# Altium footprint library to-case.PcbLib: 113 footprints (part 6 of 8)
Each footprint in its own frame and in the unit in brackets; x right, y up, seen from the top. Pads: shape width x height; smd on the part's side, far side on the other; paste and mask are expansions set on the pad; w line width, h text height; cw(c..) or ccw(c..) is an arc to the next point about the centre after c.
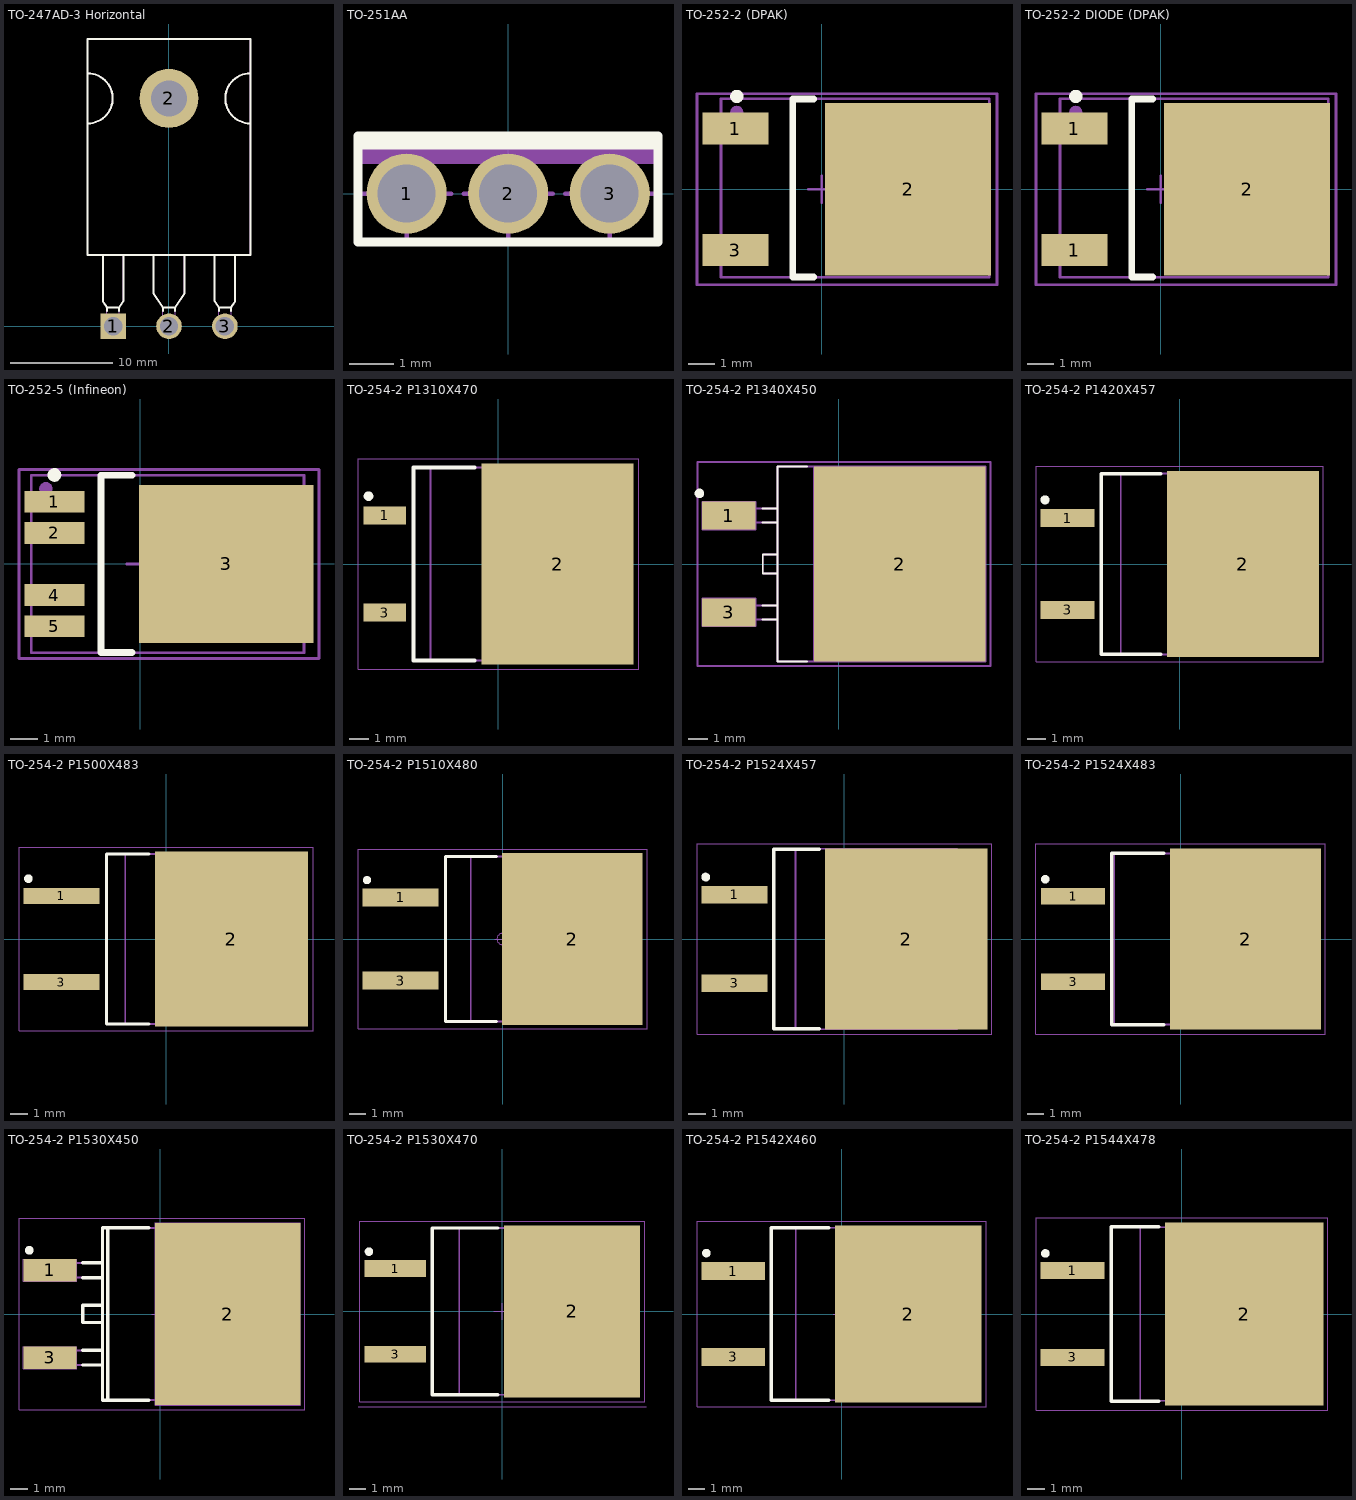
[diagram p5: the footprints below, top view; thin cyan lines are the x and y axes]

## TO-247AD-3 Horizontal [mm] "TO-247AD 3-Terminal - Horizontal Mount"
height 5.3
pads (4):
  rect 2.5x2.5 hole 1.8: 1(-5.46,0)
  round 2.5 hole 1.8: 2(0,0) 3(5.46,0)
  round 5.75 hole 3.5: 2(0,22.24)
Top Overlay:
  lines w0.2: -7.95,19.79 ccw(c-7.95,22.24) -7.95,24.69 ; -6.46,6.94 -6.46,2.44 -6.06,1.84 ; -6.06,1.5 -6.06,1.84 ; -4.86,1.5 -4.86,1.84 ; -4.46,6.94 -4.46,2.44 -4.86,1.84 ; -1.5,6.94 -1.5,3.19 -0.6,1.84 ; -0.6,1.5 -0.6,1.84 ; 0.6,1.5 0.6,1.84 ; 1.5,6.94 1.5,3.19 0.6,1.84 ; 4.46,6.94 4.46,2.44 4.86,1.84 ; 4.86,1.5 4.86,1.84 ; 6.06,1.5 6.06,1.84 ; 6.46,6.94 6.46,2.44 6.06,1.84 ; 7.95,19.79 cw(c7.95,22.24) 7.95,24.69 ; -6.06,1.84 -4.86,1.84 ; -0.6,1.84 0.6,1.84 ; 4.86,1.84 6.06,1.84 ; -7.95,6.94 7.95,6.94 7.95,28.04 -7.95,28.04 -7.95,6.94
Mechanical 1:
  circle w0.1: c0,22.24 r1.75
  lines w0.1: -7.95,19.79 ccw(c-7.95,22.24) -7.95,24.69 ; -6.46,6.94 -6.46,2.44 -6.06,1.84 ; -4.46,6.94 -4.46,2.44 -4.86,1.84 ; -1.5,6.94 -1.5,3.19 -0.6,1.84 ; 1.5,6.94 1.5,3.19 0.6,1.84 ; 4.46,6.94 4.46,2.44 4.86,1.84 ; 6.46,6.94 6.46,2.44 6.06,1.84 ; 7.95,19.79 cw(c7.95,22.24) 7.95,24.69 ; -6.06,1.84 -4.86,1.84 ; -6.06,1.84 -6.06,-0.5 -4.86,-0.5 -4.86,1.84 ; -0.6,1.84 0.6,1.84 ; -0.6,1.84 -0.6,-0.5 0.6,-0.5 0.6,1.84 ; 4.86,1.84 6.06,1.84 ; 4.86,1.84 4.86,-0.5 6.06,-0.5 6.06,1.84 ; -7.95,6.94 -7.95,28.04 7.95,28.04 7.95,6.94 -7.95,6.94
Mechanical 8:
  lines w0.1: -5.96,0 -5.46,0 ; -5.46,-0.5 -5.46,0 ; -5.46,0.5 -5.46,0 ; -4.96,0 -5.46,0 ; -0.5,0 0,0 ; 0,-0.5 0,0 ; 0,0.5 0,0 ; 0.5,0 0,0 ; 4.96,0 5.46,0 ; 5.46,-0.5 5.46,0 ; 5.46,0.5 5.46,0 ; 5.96,0 5.46,0
Mechanical 15:
  circle w0.1: c0,22.24 r1.75
  lines w0.1: -7.95,19.79 ccw(c-7.95,22.24) -7.95,24.69 ; -6.46,6.94 -6.46,2.44 -6.06,1.84 ; -4.46,6.94 -4.46,2.44 -4.86,1.84 ; -1.5,6.94 -1.5,3.19 -0.6,1.84 ; -0.5,22.24 0,22.24 ; 0,21.74 0,22.24 ; 0,22.74 0,22.24 ; 0.5,22.24 0,22.24 ; 1.5,6.94 1.5,3.19 0.6,1.84 ; 4.46,6.94 4.46,2.44 4.86,1.84 ; 6.46,6.94 6.46,2.44 6.06,1.84 ; 7.95,19.79 cw(c7.95,22.24) 7.95,24.69 ; -6.06,1.84 -4.86,1.84 ; -6.06,1.84 -6.06,-0.5 -4.86,-0.5 -4.86,1.84 ; -0.6,1.84 0.6,1.84 ; -0.6,1.84 -0.6,-0.5 0.6,-0.5 0.6,1.84 ; 4.86,1.84 6.06,1.84 ; 4.86,1.84 4.86,-0.5 6.06,-0.5 6.06,1.84 ; -7.95,6.94 7.95,6.94 7.95,28.04 -7.95,28.04 -7.95,6.94
3D body "TO-247AD-H.stp": height 5.3, standoff -3.9, extent -7.95,-0.5 7.95,28.04

## TO-251AA [mm] "TO-251AA 3-Terminal - Vertical Mount"
height 10.5
pads (3):
  round 1.8 hole 1.3: 1(-2.28,0) 2(0,0) 3(2.28,0)
Top Overlay:
  lines w0.2: -3.365,1.09 3.365,1.09 ; -3.365,-1.09 3.365,-1.09 3.365,1.29 -3.365,1.29 -3.365,-1.09
Mechanical 1:
  lines w0.1: -3.365,0.71 3.365,0.71 ; -3.365,0.79 3.365,0.79 ; -3.365,0.89 3.365,0.89 ; -3.365,0.99 3.365,0.99 ; -3.365,1.09 3.365,1.09 ; -3.365,1.19 3.365,1.19 ; -3.365,-1.09 -3.365,1.29 3.365,1.29 3.365,-1.09 -3.365,-1.09
Mechanical 8:
  lines w0.1: -3.28,0 -2.28,0 ; -2.28,-1 -2.28,0 ; -2.28,1 -2.28,0 ; -1.28,0 -2.28,0 ; 1.28,0 2.28,0 ; 2.28,-1 2.28,0 ; 2.28,1 2.28,0 ; 3.28,0 2.28,0
Mechanical 15:
  lines w0.1: -1,0 0,0 ; 0,-1 0,0 ; 0,1 0,0 ; 1,0 0,0 ; -3.369,-1.084 3.361,-1.084 3.361,1.296 -3.369,1.296 -3.369,-1.084
3D body "TO-251AA-V.stp": height 10.49, standoff -3.2, extent -3.365,-1.09 3.365,1.29

## TO-252-2 (DPAK) [mm]
height 2.4
pads (4):
  rect 2.5x1.2 smd: 1(-3.25,2.29) 3(-3.25,-2.29)
  rect 6.25x6.5 smd: 2(3.25,0)
  round 0.5 on Mech1: ""(-3.2,2.9)
Top Overlay:
  circle w0.25: c-3.2,3.5 r0.125
  lines w0.25: -0.3,-3.3 -1.1,-3.3 -1.1,3.4 -0.3,3.4
Mechanical 1:
  lines w0.1: -3.798,-3.317 6.302,-3.317 6.302,3.417 ; -3.798,-3.317 -3.798,-3.317 ; -3.798,-3.317 -3.798,3.417 6.302,3.417 ; 6.302,3.417 6.302,3.417
Mechanical 15:
  lines w0.1: -0.5,0 0.5,0 ; 0,-0.5 0,0.5 ; -4.7,-3.6 -4.7,3.6 6.6,3.6 6.6,-3.6 -4.7,-3.6
3D body "User Library-DPAK_TO-252AA.STEP": height 2.37, standoff -0.03, extent -3.798,-3.317 6.302,3.417

## TO-252-2 DIODE (DPAK) [mm]
height 2.4
pads (4):
  rect 2.5x1.2 smd: 1(-3.25,-2.29) 1(-3.25,2.29)
  rect 6.25x6.5 smd: 2(3.25,0)
  round 0.5 on Mech1: ""(-3.2,2.9)
Top Overlay:
  circle w0.25: c-3.2,3.5 r0.125
  lines w0.25: -0.3,-3.3 -1.1,-3.3 -1.1,3.4 -0.3,3.4
Mechanical 1:
  lines w0.1: -3.798,-3.317 -3.798,3.417 6.302,3.417 ; -3.798,-3.317 -3.798,-3.317 ; -3.798,-3.317 6.302,-3.317 6.302,3.417 ; 6.302,3.417 6.302,3.417
Mechanical 15:
  lines w0.1: -0.5,0 0.5,0 ; 0,-0.5 0,0.5 ; -4.7,-3.6 6.6,-3.6 6.6,3.6 -4.7,3.6 -4.7,-3.6
3D body "User Library-DPAK_TO-252AA.STEP": height 2.37, standoff -0.03, extent -3.798,-3.317 6.302,3.417

## TO-252-5 (Infineon) [mm]
height 2.35
pads (6):
  rect 2.2x0.8 smd: 1(-3.15,2.28) 2(-3.15,1.14) 4(-3.15,-1.14) 5(-3.15,-2.28)
  rect 6.4x5.8 smd: 3(3.15,0)
  round 0.5 on Mech1: ""(-3.462,2.757)
Top Overlay:
  circle w0.25: c-3.149,3.264 r0.125
  lines w0.25: -0.3,-3.247 -1.443,-3.247 -1.443,3.253 -0.3,3.253
Mechanical 1:
  lines w0.1: -4,-3.25 -4,3.25 6,3.25 6,-3.25 -4,-3.25
Mechanical 15:
  lines w0.1: -0.5,0 0.5,0 ; 0,-0.5 0,0.5 ; -4.449,-3.467 6.551,-3.467 6.551,3.465 -4.449,3.465 -4.449,-3.467
3D body "PG-TO252-5-11.stp": height 2.36, standoff 0, extent -3.94,-3.25 6.04,3.25

## TO-254-2 P1310X470 [mm] "D2PAK TO-263-2S, TO, 2.54mm Pitch; 2 Pin, 10.1mm L X 9.00mm W X 4.70mm H body, IPC Medium Density"
height 4.7
pads (3):
  rect 2.2x0.95 smd: 1(-5.95,2.54) 3(-5.95,-2.54)
  rect 7.95x10.5 smd: 2(3.1,0)
Top Overlay:
  circle w0.25: c-6.8,3.55 r0.125
  lines w0.2: -1.25,-5.05 -4.45,-5.05 -4.45,5.05 -1.25,5.05
Top Paste:
  region: -0.03,-4.59 1.51,-4.59 1.51,-2.79 -0.03,-2.79
  region: 2.33,-4.59 3.87,-4.59 3.87,-2.79 2.33,-2.79
  region: 4.69,-4.59 6.23,-4.59 6.23,-2.79 4.69,-2.79
  region: -0.03,-2.13 1.51,-2.13 1.51,-0.33 -0.03,-0.33
  region: 2.33,-2.13 3.87,-2.13 3.87,-0.33 2.33,-0.33
  region: 4.69,-2.13 6.23,-2.13 6.23,-0.33 4.69,-0.33
  region: -0.03,0.33 1.51,0.33 1.51,2.13 -0.03,2.13
  region: 2.33,0.33 3.87,0.33 3.87,2.13 2.33,2.13
  region: 4.69,0.33 6.23,0.33 6.23,2.13 4.69,2.13
  region: -0.03,2.79 1.51,2.79 1.51,4.59 -0.03,4.59
  region: 2.33,2.79 3.87,2.79 3.87,4.59 2.33,4.59
  region: 4.69,2.79 6.23,2.79 6.23,4.59 4.69,4.59
Mechanical 1:
  lines w0.1: 5.45,-5.05 -3.55,-5.05 -3.55,5.05 5.45,5.05 ; 5.45,-5.05 5.45,5.05 ; 5.45,-5.05 5.813,-5.05 6.55,-4.233 6.55,4.233 5.813,5.05 5.45,5.05
Mechanical 15:
  circle w0.05: c0,0 r0.35
  lines w0.05: -0.5,0 0.5,0 ; 0,-0.5 0,0.5 ; -7.35,-5.5 7.35,-5.5 7.35,5.5 -7.35,5.5 -7.35,-5.5
3D body "TO254P1310X470-3N-R795X1050.stp": height 4.77, standoff 0, extent -6.429,-5.05 6.671,5.05

## TO-254-2 P1340X450 [mm] "D2PAK TO-263-2L, TO, 2.54mm Pitch; 2 Pin, 13.4mm L X 10mm W X 4.50mm H Body, IPC Medium Density"
height 4.5
pads (3):
  rect 2.8x1.45 smd: 1(-5.75,2.54) 3(-5.75,-2.54)
  rect 9x10.2 smd: 2(3.2,0)
Top Overlay:
  circle w0.25: c-7.3,3.7 r0.125
  lines w0.1: -4,-2.915 -3.21,-2.915 ; -4,-2.165 -3.21,-2.165 ; -4,2.17 -3.21,2.17 ; -4,2.91 -3.21,2.91 ; -3.21,-0.495 -3.98,-0.495 -3.98,0.495 -3.21,0.495 ; -1.65,-5.1 -3.21,-5.1 -3.21,5.1 -1.65,5.1
Top Paste:
  region: -0.21,-4.49 1.21,-4.49 1.21,-2.71 -0.21,-2.71
  region: 2.49,-4.49 3.91,-4.49 3.91,-2.71 2.49,-2.71
  region: 5.19,-4.49 6.61,-4.49 6.61,-2.71 5.19,-2.71
  region: -0.21,-2.09 1.21,-2.09 1.21,-0.31 -0.21,-0.31
  region: 2.49,-2.09 3.91,-2.09 3.91,-0.31 2.49,-0.31
  region: 5.19,-2.09 6.61,-2.09 6.61,-0.31 5.19,-0.31
  region: -0.21,0.31 1.21,0.31 1.21,2.09 -0.21,2.09
  region: 2.49,0.31 3.91,0.31 3.91,2.09 2.49,2.09
  region: 5.19,0.31 6.61,0.31 6.61,2.09 5.19,2.09
  region: -0.21,2.71 1.21,2.71 1.21,4.49 -0.21,4.49
  region: 2.49,2.71 3.91,2.71 3.91,4.49 2.49,4.49
  region: 5.19,2.71 6.61,2.71 6.61,4.49 5.19,4.49
Mechanical 1:
  lines w0.1: -3.21,-2.915 -6.21,-2.915 -6.21,-2.165 -3.21,-2.165 ; -3.21,-0.495 -3.98,-0.495 -3.98,0.495 -3.21,0.495 ; -3.21,2.17 -6.21,2.17 -6.21,2.91 -3.21,2.91 ; 6.09,-5.1 6.09,5.1 ; -3.21,-5.1 -3.21,5.1 6.725,5.1 7.36,3.83 7.36,-3.83 6.725,-5.1 -3.21,-5.1
Mechanical 8:
  lines w0.1: -6.25,-2.54 -5.75,-2.54 ; -6.25,2.54 -5.75,2.54 ; -5.75,-3.04 -5.75,-2.54 ; -5.75,-2.04 -5.75,-2.54 ; -5.75,2.04 -5.75,2.54 ; -5.75,3.04 -5.75,2.54 ; -5.25,-2.54 -5.75,-2.54 ; -5.25,2.54 -5.75,2.54 ; -0.5,0 0,0 ; 0,-0.5 0,0 ; 0,0.5 0,0 ; 0.5,0 0,0 ; 2.7,0 3.2,0 ; 3.2,-0.5 3.2,0 ; 3.2,0.5 3.2,0 ; 3.7,0 3.2,0 ; -7.15,-3.265 -4.35,-3.265 -4.35,-1.815 -7.15,-1.815 -7.15,-3.265 ; -7.15,1.815 -4.35,1.815 -4.35,3.265 -7.15,3.265 -7.15,1.815 ; -1.3,-5.1 -1.3,5.1 2.9,5.1 7.7,5.1 7.7,-5.1 -1.3,-5.1
Mechanical 15:
  lines w0.1: -7.4,-5.35 -7.4,5.35 7.95,5.35 7.95,-5.35 -7.4,-5.35
3D body "TO254P1340X450-3N-R900X1020.stp": height 4.57, standoff 0, extent -6.209,-5.1 7.361,5.1

## TO-254-2 P1420X457 [mm] "D2PAK TO-263, TO, 2.54mm pitch; 3 pin, 14.199mm L X 9.195mm W X 4.57mm H body, IPC Medium Density"
height 4.57
pads (3):
  rect 3x1 smd: 1(-6.2,2.54) 3(-6.2,-2.54)
  rect 8.4x10.3 smd: 2(3.5,0)
Top Overlay:
  circle w0.25: c-7.45,3.55 r0.125
  lines w0.2: -1.05,-5 -4.35,-5 -4.35,5 -1.05,5
Top Paste:
  region: 0.17,-4.46 1.83,-4.46 1.83,-2.74 0.17,-2.74
  region: 2.67,-4.46 4.33,-4.46 4.33,-2.74 2.67,-2.74
  region: 5.17,-4.46 6.83,-4.46 6.83,-2.74 5.17,-2.74
  region: 0.17,-2.06 1.83,-2.06 1.83,-0.34 0.17,-0.34
  region: 2.67,-2.06 4.33,-2.06 4.33,-0.34 2.67,-0.34
  region: 5.17,-2.06 6.83,-2.06 6.83,-0.34 5.17,-0.34
  region: 0.17,0.34 1.83,0.34 1.83,2.06 0.17,2.06
  region: 2.67,0.34 4.33,0.34 4.33,2.06 2.67,2.06
  region: 5.17,0.34 6.83,0.34 6.83,2.06 5.17,2.06
  region: 0.17,2.74 1.83,2.74 1.83,4.46 0.17,4.46
  region: 2.67,2.74 4.33,2.74 4.33,4.46 2.67,4.46
  region: 5.17,2.74 6.83,2.74 6.83,4.46 5.17,4.46
Mechanical 1:
  lines w0.1: 5.929,-5.01 -3.265,-5.01 -3.265,5.01 5.929,5.01 ; 5.929,-5.01 5.929,5.01 ; 5.93,-5.01 6.316,-5.01 7.1,-4.141 7.1,4.141 6.316,5.01 5.93,5.01
Mechanical 15:
  circle w0.05: c0,0 r0.35
  lines w0.05: -0.5,0 0.5,0 ; 0,-0.5 0,0.5 ; -7.95,-5.4 7.95,-5.4 7.95,5.4 -7.95,5.4 -7.95,-5.4
3D body "TO254P1420X457-3N-R795X1023.stp": height 4.57, standoff 0, extent -7.36,-5.1 7.361,5.1

## TO-254-2 P1500X483 [mm] "D2PAK TO-263A, TO,2.54mm pitch;2 pin,15.00mm L X 9.20mm W X 4.83mm H body, IPC Medium Density"
height 4.83
pads (3):
  rect 4.45x0.95 smd: 1(-6.15,2.54) 3(-6.15,-2.54)
  rect 9x10.3 smd: 2(3.85,0)
Top Overlay:
  circle w0.25: c-8.1,3.55 r0.125
  lines w0.2: -1,-5 -3.5,-5 -3.5,5 -1,5
Top Paste:
  region: 6.26,2.75 7.62,2.75 7.62,4.45 6.26,4.45
  region: 4.2,2.75 5.56,2.75 5.56,4.45 4.2,4.45
  region: 2.14,2.75 3.5,2.75 3.5,4.45 2.14,4.45
  region: 0.08,2.75 1.44,2.75 1.44,4.45 0.08,4.45
  region: 6.26,0.35 7.62,0.35 7.62,2.05 6.26,2.05
  region: 4.2,0.35 5.56,0.35 5.56,2.05 4.2,2.05
  region: 2.14,0.35 3.5,0.35 3.5,2.05 2.14,2.05
  region: 0.08,0.35 1.44,0.35 1.44,2.05 0.08,2.05
  region: 6.26,-2.05 7.62,-2.05 7.62,-0.35 6.26,-0.35
  region: 4.2,-2.05 5.56,-2.05 5.56,-0.35 4.2,-0.35
  region: 2.14,-2.05 3.5,-2.05 3.5,-0.35 2.14,-0.35
  region: 0.08,-2.05 1.44,-2.05 1.44,-0.35 0.08,-0.35
  region: 6.26,-4.45 7.62,-4.45 7.62,-2.75 6.26,-2.75
  region: 4.2,-4.45 5.56,-4.45 5.56,-2.75 4.2,-2.75
  region: 2.14,-4.45 3.5,-4.45 3.5,-2.75 2.14,-2.75
  region: 0.08,-4.45 1.44,-4.45 1.44,-2.75 0.08,-2.75
Mechanical 1:
  lines w0.1: 6.8,-5 -2.4,-5 -2.4,5 6.8,5 ; 6.8,-5 6.8,5 ; 6.8,-5 7.031,-5 7.5,-4.48 7.5,4.48 7.031,5 6.8,5
Mechanical 15:
  lines w0.05: -0.5,0 0.5,0 ; 0,-0.5 0,0.5 ; -8.65,-5.4 8.65,-5.4 8.65,5.4 -8.65,5.4 -8.65,-5.4
3D body "TO254P1524X483-3N.stp": height 4.83, standoff 0, extent -7.622,-5.08 7.623,5.08

## TO-254-2 P1510X480 [mm] "D2PAK TO-263, TO, 2.54mm Pitch; 3 Pin, 15.1mm L X 10.10mm W X 4.8mm H Body, IPC Medium Density"
height 4.8
pads (3):
  rect 4.65x1.1 smd: 1(-6.25,2.54) 3(-6.25,-2.54)
  rect 8.6x10.5 smd: 2(4.25,0)
Top Overlay:
  circle w0.25: c-8.3,3.6 r0.125
  lines w0.2: -0.4,-5.05 -3.5,-5.05 -3.5,5.05 -0.4,5.05
Top Paste:
  region: 0.81,-4.57 2.53,-4.57 2.53,-2.81 0.81,-2.81
  region: 3.39,-4.57 5.11,-4.57 5.11,-2.81 3.39,-2.81
  region: 5.97,-4.57 7.69,-4.57 7.69,-2.81 5.97,-2.81
  region: 0.81,-2.11 2.53,-2.11 2.53,-0.35 0.81,-0.35
  region: 3.39,-2.11 5.11,-2.11 5.11,-0.35 3.39,-0.35
  region: 5.97,-2.11 7.69,-2.11 7.69,-0.35 5.97,-0.35
  region: 0.81,0.35 2.53,0.35 2.53,2.11 0.81,2.11
  region: 3.39,0.35 5.11,0.35 5.11,2.11 3.39,2.11
  region: 5.97,0.35 7.69,0.35 7.69,2.11 5.97,2.11
  region: 0.81,2.81 2.53,2.81 2.53,4.57 0.81,4.57
  region: 3.39,2.81 5.11,2.81 5.11,4.57 3.39,4.57
  region: 5.97,2.81 7.69,2.81 7.69,4.57 5.97,4.57
Mechanical 1:
  lines w0.1: 6.58,-5.05 -1.95,-5.05 -1.95,5.05 6.58,5.05 ; 6.58,-5.05 6.58,5.05 ; 6.58,-5.05 6.9,-5.05 7.55,-4.33 7.55,4.33 6.9,5.05 6.58,5.05
Mechanical 15:
  circle w0.05: c0,0 r0.35
  lines w0.05: -0.5,0 0.5,0 ; 0,-0.5 0,0.5 ; -8.85,-5.5 8.85,-5.5 8.85,5.5 -8.85,5.5 -8.85,-5.5
3D body "TO254P1510X480-3N-R720X1040.stp": height 4.8, standoff 0, extent -7.552,-5.08 7.552,5.08

## TO-254-2 P1524X457 [mm] "D2PAK TO-263A, TO,2.54mm pitch;2 pin,15.24mm L X 9.27mm W X 4.57mm H body, IPC Medium Density"
height 4.57
pads (3):
  rect 3.8x1 smd: 1(-6.3,2.54) 3(-6.3,-2.54)
  rect 9.3x10.4 smd: 2(3.55,0)
Top Overlay:
  circle w0.25: c-7.95,3.55 r0.125
  lines w0.2: -1.45,-5.15 -4.05,-5.15 -4.05,5.15 -1.45,5.15
Top Paste:
  region: -0.37,-4.48 1.05,-4.48 1.05,-2.78 -0.37,-2.78
  region: 1.77,-4.48 3.19,-4.48 3.19,-2.78 1.77,-2.78
  region: 3.91,-4.48 5.33,-4.48 5.33,-2.78 3.91,-2.78
  region: 6.05,-4.48 7.47,-4.48 7.47,-2.78 6.05,-2.78
  region: -0.37,-2.06 1.05,-2.06 1.05,-0.36 -0.37,-0.36
  region: 1.77,-2.06 3.19,-2.06 3.19,-0.36 1.77,-0.36
  region: 3.91,-2.06 5.33,-2.06 5.33,-0.36 3.91,-0.36
  region: 6.05,-2.06 7.47,-2.06 7.47,-0.36 6.05,-0.36
  region: -0.37,0.36 1.05,0.36 1.05,2.06 -0.37,2.06
  region: 1.77,0.36 3.19,0.36 3.19,2.06 1.77,2.06
  region: 3.91,0.36 5.33,0.36 5.33,2.06 3.91,2.06
  region: 6.05,0.36 7.47,0.36 7.47,2.06 6.05,2.06
  region: -0.37,2.78 1.05,2.78 1.05,4.48 -0.37,4.48
  region: 1.77,2.78 3.19,2.78 3.19,4.48 1.77,4.48
  region: 3.91,2.78 5.33,2.78 5.33,4.48 3.91,4.48
  region: 6.05,2.78 7.47,2.78 7.47,4.48 6.05,4.48
Mechanical 1:
  lines w0.1: 6.47,-5.08 6.85,-5.08 7.62,-4.226 7.62,4.226 6.85,5.08 6.47,5.08 ; -2.8,-5.17 -2.8,5.17 6.47,5.17 6.47,-5.17 -2.8,-5.17
Mechanical 15:
  lines w0.05: -0.5,0 0.5,0 ; 0,-0.5 0,0.5 ; -8.45,-5.45 -8.45,5.45 8.45,5.45 8.45,-5.45 -8.45,-5.45
3D body "TO254P1524X483-3N.stp": height 4.83, standoff 0, extent -7.622,-5.08 7.623,5.08

## TO-254-2 P1524X483 [mm] "D2PAK TO-263A, TO, 2.54mm pitch; 2 pin, 15.24mm L X 10.425mm W X 4.83mm H body, IPC Medium Density"
height 4.83
pads (3):
  rect 3.8x1 smd: 1(-6.4,2.54) 3(-6.4,-2.54)
  rect 8.95x10.75 smd: 2(3.85,0)
Top Overlay:
  circle w0.25: c-8.05,3.55 r0.125
  lines w0.2: -1,-5.1 -4.1,-5.1 -4.1,5.1 -1,5.1
Top Paste:
  region: 6.27,3.36 7.61,3.36 7.61,4.8 6.27,4.8
  region: 4.21,3.36 5.55,3.36 5.55,4.8 4.21,4.8
  region: 2.15,3.36 3.49,3.36 3.49,4.8 2.15,4.8
  region: 0.09,3.36 1.43,3.36 1.43,4.8 0.09,4.8
  region: 6.27,1.32 7.61,1.32 7.61,2.76 6.27,2.76
  region: 4.21,1.32 5.55,1.32 5.55,2.76 4.21,2.76
  region: 2.15,1.32 3.49,1.32 3.49,2.76 2.15,2.76
  region: 0.09,1.32 1.43,1.32 1.43,2.76 0.09,2.76
  region: 6.27,-0.72 7.61,-0.72 7.61,0.72 6.27,0.72
  region: 4.21,-0.72 5.55,-0.72 5.55,0.72 4.21,0.72
  region: 2.15,-0.72 3.49,-0.72 3.49,0.72 2.15,0.72
  region: 0.09,-0.72 1.43,-0.72 1.43,0.72 0.09,0.72
  region: 6.27,-2.76 7.61,-2.76 7.61,-1.32 6.27,-1.32
  region: 4.21,-2.76 5.55,-2.76 5.55,-1.32 4.21,-1.32
  region: 2.15,-2.76 3.49,-2.76 3.49,-1.32 2.15,-1.32
  region: 0.09,-2.76 1.43,-2.76 1.43,-1.32 0.09,-1.32
  region: 6.27,-4.8 7.61,-4.8 7.61,-3.36 6.27,-3.36
  region: 4.21,-4.8 5.55,-4.8 5.55,-3.36 4.21,-3.36
  region: 2.15,-4.8 3.49,-4.8 3.49,-3.36 2.15,-3.36
  region: 0.09,-4.8 1.43,-4.8 1.43,-3.36 0.09,-3.36
Mechanical 1:
  lines w0.1: 6.48,-5.08 -3.945,-5.08 -3.945,5.08 6.48,5.08 ; 6.48,-5.08 6.48,5.08 ; 6.48,-5.08 6.856,-5.08 7.62,-4.234 7.62,4.234 6.856,5.08 6.48,5.08
Mechanical 15:
  lines w0.05: -0.5,0 0.5,0 ; 0,-0.5 0,0.5 ; -8.6,-5.65 8.6,-5.65 8.6,5.65 -8.6,5.65 -8.6,-5.65
3D body "TO254P1524X483-3N.stp": height 4.83, standoff 0, extent -7.622,-5.08 7.623,5.08

## TO-254-2 P1530X450 [mm] "D2PAK TO-263, TO, 2.54mm Pitch; 2 Pin, 15.30mm L X 10.0mm W X 4.50mm H body"
height 4.5
pads (3):
  rect 3.1x1.3 smd: 1(-6.4,2.54) 3(-6.4,-2.54)
  rect 8.45x10.6 smd: 2(3.925,0)
Top Overlay:
  circle w0.25: c-7.6,3.7 r0.125
  lines w0.2: -4.5,-2.964 -3.35,-2.964 ; -4.5,-2.114 -3.35,-2.114 ; -4.5,2.116 -3.35,2.116 ; -4.5,2.966 -3.35,2.966 ; -3.35,-0.494 -4.5,-0.494 -4.5,0.496 -3.35,0.496 ; -3.042,-4.999 -3.042,5.001 ; -0.65,-4.999 -3.35,-4.999 -3.35,5.001 -0.65,5.001
Mechanical 1:
  lines w0.1: -3.35,-2.964 -7.65,-2.964 -7.65,-2.114 -3.35,-2.114 ; -3.35,-0.494 -4.5,-0.494 -4.5,0.496 -3.35,0.496 ; -3.35,2.116 -7.65,2.116 -7.65,2.966 -3.35,2.966 ; -3.042,-4.999 -3.042,5.001 ; 5.689,-4.999 5.689,5.001 ; 6.25,-4.999 6.25,5.001 ; -3.35,-4.999 7.374,-4.999 7.65,-4.24 7.65,4.243 7.374,5.001 -3.35,5.001 -3.35,-4.999
Mechanical 8:
  lines w0.05: -0.5,0 0,0 ; 0,-0.5 0,0 ; 0,0.5 0,0 ; 0.5,0 0,0 ; -7.95,-3.19 -6.4,-2.54 -7.95,-1.89 ; -7.95,-3.19 -7.95,-1.89 ; -7.95,-3.19 -4.85,-3.19 -4.85,-1.89 -7.95,-1.89 ; -7.95,1.89 -6.4,2.54 -7.95,3.19 ; -7.95,1.89 -7.95,3.19 ; -7.95,1.89 -4.85,1.89 -4.85,3.19 -7.95,3.19 ; 8.15,-5.3 3.925,0 8.15,5.3 ; 8.15,-5.3 -0.3,-5.3 -0.3,5.3 8.15,5.3 ; 8.15,-5.3 8.15,5.3
Mechanical 15:
  lines w0.05: -0.5,0 0.5,0 ; 0,-0.5 0,0.5 ; -8.2,-5.55 8.4,-5.55 8.4,5.55 -8.2,5.55 -8.2,-5.55
3D body "TO254P1530X450-3N-R845X1060.stp": height 4.5, standoff 0, extent -7.65,-4.999 7.65,5.001

## TO-254-2 P1530X470 [mm] "D2PAK TO-263A, TO,2.54mm pitch;2 pin,15.30mm L X 9.20mm W X 4.70mm H body, IPC Medium Density"
height 4.7
pads (3):
  rect 3.65x1 smd: 1(-6.35,2.54) 3(-6.35,-2.54)
  rect 8.05x10.2 smd: 2(4.15,0)
Top Overlay:
  circle w0.25: c-7.9,3.55 r0.125
  lines w0.2: -0.25,-4.95 -4.15,-4.95 -4.15,4.95 -0.25,4.95
Top Paste:
  region: 0.96,-4.43 2.54,-4.43 2.54,-2.71 0.96,-2.71
  region: 3.36,-4.43 4.94,-4.43 4.94,-2.71 3.36,-2.71
  region: 5.76,-4.43 7.34,-4.43 7.34,-2.71 5.76,-2.71
  region: 0.96,-2.05 2.54,-2.05 2.54,-0.33 0.96,-0.33
  region: 3.36,-2.05 4.94,-2.05 4.94,-0.33 3.36,-0.33
  region: 5.76,-2.05 7.34,-2.05 7.34,-0.33 5.76,-0.33
  region: 0.96,0.33 2.54,0.33 2.54,2.05 0.96,2.05
  region: 3.36,0.33 4.94,0.33 4.94,2.05 3.36,2.05
  region: 5.76,0.33 7.34,0.33 7.34,2.05 5.76,2.05
  region: 0.96,2.71 2.54,2.71 2.54,4.43 0.96,4.43
  region: 3.36,2.71 4.94,2.71 4.94,4.43 3.36,4.43
  region: 5.76,2.71 7.34,2.71 7.34,4.43 5.76,4.43
Mechanical 1:
  lines w0.1: 6.65,-4.95 6.98,-4.95 7.65,-4.208 7.65,4.208 6.98,4.95 6.65,4.95 ; 6.65,-4.95 6.65,4.95 ; 6.65,-4.95 -2.55,-4.95 -2.55,4.95 6.65,4.95
Mechanical 15:
  lines w0.05: -8.55,-5.65 8.55,-5.65 ; -0.5,0 0.5,0 ; 0,-0.5 0,0.5 ; -8.45,-5.35 -8.45,5.35 8.45,5.35 8.45,-5.35 -8.45,-5.35
3D body "TO254P1524X483-3N.stp": height 4.83, standoff 0, extent -7.622,-5.08 7.623,5.08

## TO-254-2 P1542X460 [mm] "D2PAK TO-263 TO, 2.54mm pitch; 2 pin, 15.425mm L X 9.15mm W X 4.60mm H body, IPC Medium Density"
height 4.6
pads (3):
  rect 3.75x1.05 smd: 1(-6.4,2.54) 3(-6.4,-2.54)
  rect 8.65x10.5 smd: 2(3.95,0)
Top Overlay:
  circle w0.25: c-8,3.6 r0.125
  lines w0.2: -0.75,-5.1 -4.15,-5.1 -4.15,5.1 -0.75,5.1
Top Paste:
  region: 6.3,3.26 7.6,3.26 7.6,4.66 6.3,4.66
  region: 4.3,3.26 5.6,3.26 5.6,4.66 4.3,4.66
  region: 2.3,3.26 3.6,3.26 3.6,4.66 2.3,4.66
  region: 0.3,3.26 1.6,3.26 1.6,4.66 0.3,4.66
  region: 6.3,1.28 7.6,1.28 7.6,2.68 6.3,2.68
  region: 4.3,1.28 5.6,1.28 5.6,2.68 4.3,2.68
  region: 2.3,1.28 3.6,1.28 3.6,2.68 2.3,2.68
  region: 0.3,1.28 1.6,1.28 1.6,2.68 0.3,2.68
  region: 6.3,-0.7 7.6,-0.7 7.6,0.7 6.3,0.7
  region: 4.3,-0.7 5.6,-0.7 5.6,0.7 4.3,0.7
  region: 2.3,-0.7 3.6,-0.7 3.6,0.7 2.3,0.7
  region: 0.3,-0.7 1.6,-0.7 1.6,0.7 0.3,0.7
  region: 6.3,-2.68 7.6,-2.68 7.6,-1.28 6.3,-1.28
  region: 4.3,-2.68 5.6,-2.68 5.6,-1.28 4.3,-1.28
  region: 2.3,-2.68 3.6,-2.68 3.6,-1.28 2.3,-1.28
  region: 0.3,-2.68 1.6,-2.68 1.6,-1.28 0.3,-1.28
  region: 6.3,-4.66 7.6,-4.66 7.6,-3.26 6.3,-3.26
  region: 4.3,-4.66 5.6,-4.66 5.6,-3.26 4.3,-3.26
  region: 2.3,-4.66 3.6,-4.66 3.6,-3.26 2.3,-3.26
  region: 0.3,-4.66 1.6,-4.66 1.6,-3.26 0.3,-3.26
Mechanical 1:
  lines w0.1: 6.442,-5.1 -2.708,-5.1 -2.708,5.1 6.442,5.1 ; 6.442,-5.1 6.442,5.1 ; 6.442,-5.1 6.861,-5.1 7.712,-4.157 7.712,4.157 6.861,5.1 6.442,5.1
Mechanical 15:
  lines w0.05: -0.5,0 0.5,0 ; 0,-0.5 0,0.5 ; -8.55,-5.5 8.55,-5.5 8.55,5.5 -8.55,5.5 -8.55,-5.5
3D body "TO254P1524X483-3N.stp": height 4.83, standoff 0, extent -7.622,-5.08 7.623,5.08

## TO-254-2 P1544X478 [mm] "D2PAK TO-263A,TO, 2.54mm pitch; 2 pin,1 5.435mm L X 9.27mm W X 4.78mm H body, IPC Medium Density"
height 4.78
pads (3):
  rect 3.75x1 smd: 1(-6.4,2.54) 3(-6.4,-2.54)
  rect 9.3x10.75 smd: 2(3.65,0)
Top Overlay:
  circle w0.25: c-8,3.55 r0.125
  lines w0.2: -1.35,-5.1 -4.15,-5.1 -4.15,5.1 -1.35,5.1
Top Paste:
  region: 6.18,3.33 6.18,4.75 7.6,4.75 7.6,3.33
  region: 4.02,3.33 4.02,4.75 5.44,4.75 5.44,3.33
  region: 1.86,3.33 1.86,4.75 3.28,4.75 3.28,3.33
  region: -0.3,3.33 -0.3,4.75 1.12,4.75 1.12,3.33
  region: 6.18,1.31 6.18,2.73 7.6,2.73 7.6,1.31
  region: 4.02,1.31 4.02,2.73 5.44,2.73 5.44,1.31
  region: 1.86,1.31 1.86,2.73 3.28,2.73 3.28,1.31
  region: -0.3,1.31 -0.3,2.73 1.12,2.73 1.12,1.31
  region: 6.18,-0.71 6.18,0.71 7.6,0.71 7.6,-0.71
  region: 4.02,-0.71 4.02,0.71 5.44,0.71 5.44,-0.71
  region: 1.86,-0.71 1.86,0.71 3.28,0.71 3.28,-0.71
  region: -0.3,-0.71 -0.3,0.71 1.12,0.71 1.12,-0.71
  region: 6.18,-2.73 6.18,-1.31 7.6,-1.31 7.6,-2.73
  region: 4.02,-2.73 4.02,-1.31 5.44,-1.31 5.44,-2.73
  region: 1.86,-2.73 1.86,-1.31 3.28,-1.31 3.28,-2.73
  region: -0.3,-2.73 -0.3,-1.31 1.12,-1.31 1.12,-2.73
  region: 6.18,-4.75 6.18,-3.33 7.6,-3.33 7.6,-4.75
  region: 4.02,-4.75 4.02,-3.33 5.44,-3.33 5.44,-4.75
  region: 1.86,-4.75 1.86,-3.33 3.28,-3.33 3.28,-4.75
  region: -0.3,-4.75 -0.3,-3.33 1.12,-3.33 1.12,-4.75
Mechanical 1:
  lines w0.1: 6.828,-5.08 -2.442,-5.08 -2.442,5.08 6.828,5.08 ; 6.828,-5.08 6.828,5.08 ; 6.828,-5.08 7.121,-5.08 7.717,-4.419 7.717,4.419 7.121,5.08 6.828,5.08
Mechanical 15:
  lines w0.05: -0.5,0 0.5,0 ; 0,-0.5 0,0.5 ; -8.55,-5.65 8.55,-5.65 8.55,5.65 -8.55,5.65 -8.55,-5.65
3D body "TO254P1524X483-3N.stp": height 4.83, standoff 0, extent -7.622,-5.08 7.623,5.08